# Altium footprint library LED_SMD.PcbLib: 79 footprints (part 4 of 5)
Each footprint in its own frame and in the unit in brackets; x right, y up, seen from the top. Pads: shape width x height; smd on the part's side, far side on the other; paste and mask are expansions set on the pad; w line width, h text height; cw(c..) or ccw(c..) is an arc to the next point about the centre after c.
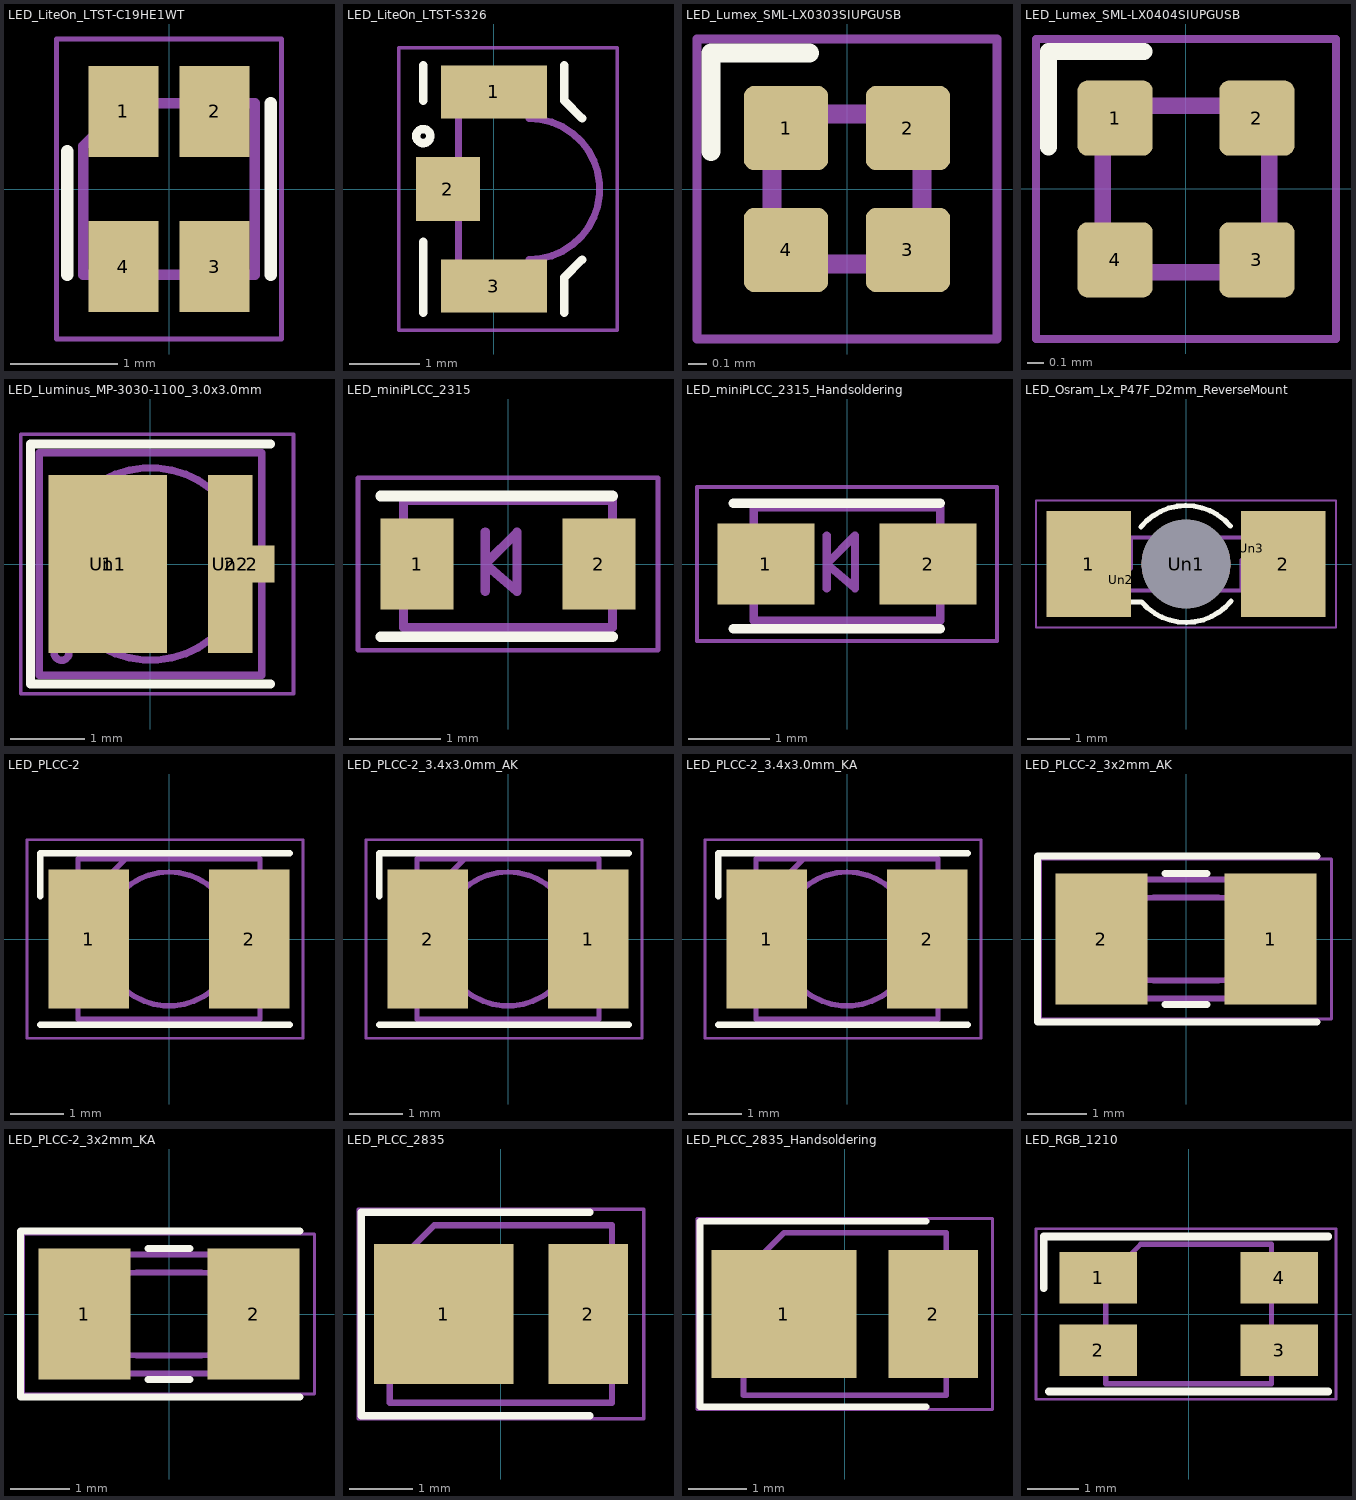
[diagram p3: the footprints below, top view; thin cyan lines are the x and y axes]

## LED_LiteOn_LTST-C19HE1WT [mm]
pads (4):
  rect 0.65x0.85 smd: 1(-0.425,0.725) 2(0.425,0.725) 3(0.425,-0.725) 4(-0.425,-0.725)
F.SilkS:
  lines w0.12: -0.95,-0.8 -0.95,0.35 ; 0.95,-0.8 0.95,0.8
F.CrtYd:
  lines w0.05: -1.05,-1.4 -1.05,1.4 1.05,1.4 1.05,-1.4 -1.05,-1.4
F.Fab:
  lines w0.1: -0.8,-0.8 -0.8,0.4 -0.4,0.8 0.8,0.8 0.8,-0.8 -0.8,-0.8
  text "'.Designator'" at -1.219,-0.257 h0.3

## LED_LiteOn_LTST-S326 [mm]
pads (3):
  rect 1.5x0.75 smd: 1(0,1.375) 3(0,-1.375)
  rect 0.9x0.9 smd: 2(-0.65,0)
F.SilkS:
  circle w0.12: c-1,0.75 r0.1
  lines w0.12: -1,-1.75 -1,-0.75 ; -1,1.25 -1,1.75 ; 1,-1.75 1,-1.25 1.25,-1 ; 1,1.75 1,1.25 1.25,1
F.CrtYd:
  lines w0.05: -1.35,-2 -1.35,2 1.75,2 1.75,-2 -1.35,-2
F.Fab:
  lines w0.1: -0.5,-1.5 -0.5,1.5 0.5,1.5 0.5,1 cw(c0.5,0) 0.5,-1 0.5,-1.5 -0.5,-1.5
  text "'.Designator'" at -3.197,-0.632 h0.8

## LED_Lumex_SML-LX0303SIUPGUSB [mm]
pads (4):
  rrect25% 0.45x0.45 smd: 1(-0.325,0.325) 2(0.325,0.325) 3(0.325,-0.325) 4(-0.325,-0.325)
F.SilkS:
  lines w0.1: -0.725,0.2 -0.725,0.725 -0.2,0.725
F.CrtYd:
  lines w0.05: -0.8,-0.8 -0.8,0.8 0.8,0.8 0.8,-0.8 -0.8,-0.8
F.Fab:
  lines w0.1: -0.4,-0.4 -0.4,0.2 -0.2,0.4 0.4,0.4 0.4,-0.4 -0.4,-0.4
  text "'.Designator'" at -2.048,0.555 h0.5

## LED_Lumex_SML-LX0404SIUPGUSB [mm]
pads (4):
  rrect25% 0.45x0.45 smd: 1(-0.425,0.425) 2(0.425,0.425) 3(0.425,-0.425) 4(-0.425,-0.425)
F.SilkS:
  lines w0.1: -0.825,0.25 -0.825,0.825 -0.25,0.825
F.CrtYd:
  lines w0.05: -0.9,-0.9 -0.9,0.9 0.9,0.9 0.9,-0.9 -0.9,-0.9
F.Fab:
  lines w0.1: -0.5,-0.5 -0.5,0.25 -0.25,0.5 0.5,0.5 0.5,-0.5 -0.5,-0.5
  text "'.Designator'" at -2.048,0.555 h0.5

## LED_Luminus_MP-3030-1100_3.0x3.0mm [mm]
pads (5):
  rect 1.6x2.4 smd: 1(-0.575,0)
  rect 0.6x2.4 smd: 2(1.075,0)
  rect 0.6x0.5 smd: 2(1.375,0)
  rect 1.3x1.9 on Top Paste: Un1(-0.575,0)
  rect 0.4x1.9 on Top Paste: Un2(1.075,0)
F.SilkS:
  lines w0.12: 1.62,-1.62 -1.62,-1.62 -1.62,1.62 1.62,1.62
F.CrtYd:
  lines w0.05: -1.75,-1.75 -1.75,1.75 1.93,1.75 1.93,-1.75 -1.75,-1.75
F.Fab:
  circle w0.1: c-1.2,-1.2 r0.1
  circle w0.1: c0,0 r1.3
  lines w0.1: -1.5,-1.5 -1.5,1.5 1.5,1.5 1.5,-1.5 -1.5,-1.5
  text "'.Designator'" at -2.428,-0.504 h0.6

## LED_miniPLCC_2315 [mm]
pads (2):
  rect 0.8x1 smd: 1(-1,0) 2(1,0)
F.SilkS:
  lines w0.12: -1.4,-0.8 1.15,-0.8 ; -1.4,0.75 1.15,0.75
F.CrtYd:
  lines w0.05: -1.65,-0.95 -1.65,0.95 1.65,0.95 1.65,-0.95 -1.65,-0.95
F.Fab:
  lines w0.1: -0.25,-0.3 -0.25,0.35 ; -1.15,-0.7 -1.15,0.7 1.15,0.7 1.15,-0.7 -1.15,-0.7 ; -0.25,0 0.1,-0.3 0.1,0.35 -0.25,0

## LED_miniPLCC_2315_Handsoldering [mm]
pads (2):
  rect 1.2x1 smd: 1(-1,0) 2(1,0)
F.SilkS:
  lines w0.12: -1.4,-0.8 1.15,-0.8 ; -1.4,0.75 1.15,0.75
F.CrtYd:
  lines w0.05: -1.85,-0.95 -1.85,0.95 1.85,0.95 1.85,-0.95 -1.85,-0.95
F.Fab:
  lines w0.1: -0.25,-0.3 -0.25,0.35 ; -1.15,-0.7 1.15,-0.7 1.15,0.7 -1.15,0.7 -1.15,-0.7 ; -0.25,0 0.1,0.35 0.1,-0.3 -0.25,0

## LED_Osram_Lx_P47F_D2mm_ReverseMount [mm]
pads (5):
  rect 2x2.5 smd: 1(-2.3,0) 2(2.3,0)
  round 2.1 hole 2.1: Un1(0,0)
  rect 0.5x0.7 on Top Paste: Un2(-1.55,-0.375) Un3(1.55,0.375)
F.SilkS:
  lines w0.12: -2,-0.9 -1.05,-0.9 ccw(c0,0) 1.069,-0.878 ; -1.069,0.878 cw(c0,0) 1.05,0.9
F.CrtYd:
  lines w0.05: -3.55,-1.5 3.55,-1.5 3.55,1.5 -3.55,1.5 -3.55,-1.5
F.Fab:
  lines w0.1: -0.715,0.625 -1.3,0.625 -1.3,-0.1 -1.5,-0.1 -1.7,-0.3 -1.7,-0.625 -0.715,-0.625 ccw(c0,0) 0.714,-0.626 ; -0.714,0.626 cw(c0,0) 0.715,0.625 1.705,0.625 1.705,0.095 1.315,0.095 1.315,-0.625 0.715,-0.625
  text "'.Designator'" at -2.438,-0.514 h0.6

## LED_PLCC-2 [mm]
pads (2):
  rect 1.5x2.6 smd: 1(-1.5,0) 2(1.5,0)
F.SilkS:
  lines w0.12: -2.4,-1.6 2.25,-1.6 ; -2.4,0.8 -2.4,1.6 2.25,1.6
F.CrtYd:
  lines w0.05: -2.65,-1.85 2.5,-1.85 2.5,1.85 -2.65,1.85 -2.65,-1.85
F.Fab:
  circle w0.1: c0,0 r1.25
  lines w0.1: -1.7,0.6 -0.8,1.5 ; -1.7,-1.5 -1.7,1.5 1.7,1.5 1.7,-1.5 -1.7,-1.5
  text "'.Designator'" at -1.659,-0.376 h0.4

## LED_PLCC-2_3.4x3.0mm_AK [mm]
pads (2):
  rect 1.5x2.6 smd: 1(1.5,0) 2(-1.5,0)
F.SilkS:
  lines w0.12: -2.4,-1.6 2.25,-1.6 ; -2.4,0.8 -2.4,1.6 2.25,1.6
F.CrtYd:
  lines w0.05: -2.65,-1.85 2.5,-1.85 2.5,1.85 -2.65,1.85 -2.65,-1.85
F.Fab:
  circle w0.1: c0,0 r1.25
  lines w0.1: -1.7,0.6 -0.8,1.5 ; -1.7,-1.5 -1.7,1.5 1.7,1.5 1.7,-1.5 -1.7,-1.5
  text "'.Designator'" at -2.048,-0.445 h0.5

## LED_PLCC-2_3.4x3.0mm_KA [mm]
pads (2):
  rect 1.5x2.6 smd: 1(-1.5,0) 2(1.5,0)
F.SilkS:
  lines w0.12: -2.4,-1.6 2.25,-1.6 ; -2.4,0.8 -2.4,1.6 2.25,1.6
F.CrtYd:
  lines w0.05: -2.65,-1.85 2.5,-1.85 2.5,1.85 -2.65,1.85 -2.65,-1.85
F.Fab:
  circle w0.1: c0,0 r1.25
  lines w0.1: -1.7,0.6 -0.8,1.5 ; -1.7,-1.5 -1.7,1.5 1.7,1.5 1.7,-1.5 -1.7,-1.5
  text "'.Designator'" at -2.048,-0.445 h0.5

## LED_PLCC-2_3x2mm_AK [mm]
pads (2):
  rect 1.55x2.2 smd: 1(1.425,0) 2(-1.425,0)
F.SilkS:
  lines w0.12: -0.35,-1.1 0.35,-1.1 ; -0.35,1.1 0.35,1.1 ; 2.2,-1.4 -2.5,-1.4 -2.5,1.4 2.2,1.4
F.CrtYd:
  lines w0.05: -2.45,-1.35 2.45,-1.35 2.45,1.35 -2.45,1.35 -2.45,-1.35
F.Fab:
  lines w0.1: -1.5,0.4 -0.9,1 ; -1.5,-1 -1.5,1 1.5,1 1.5,-1 -1.5,-1 ; -0.55,-0.7 0.55,-0.7 ccw(c0.55,0) 0.55,0.7 -0.55,0.7 ccw(c-0.55,0) -0.55,-0.7
  text "'.Designator'" at -2.048,-0.445 h0.5

## LED_PLCC-2_3x2mm_KA [mm]
pads (2):
  rect 1.55x2.2 smd: 1(-1.425,0) 2(1.425,0)
F.SilkS:
  lines w0.12: -0.35,-1.1 0.35,-1.1 ; -0.35,1.1 0.35,1.1 ; 2.2,-1.4 -2.5,-1.4 -2.5,1.4 2.2,1.4
F.CrtYd:
  lines w0.05: -2.45,-1.35 2.45,-1.35 2.45,1.35 -2.45,1.35 -2.45,-1.35
F.Fab:
  lines w0.1: -1.5,0.4 -0.9,1 ; -1.5,-1 -1.5,1 1.5,1 1.5,-1 -1.5,-1 ; -0.55,-0.7 0.55,-0.7 ccw(c0.55,0) 0.55,0.7 -0.55,0.7 ccw(c-0.55,0) -0.55,-0.7
  text "'.Designator'" at -2.048,-0.445 h0.5

## LED_PLCC_2835 [mm]
pads (2):
  rect 2.2x2.2 smd: 1(-0.9,0)
  rect 1.25x2.2 smd: 2(1.375,0)
F.SilkS:
  lines w0.12: 1.4,-1.6 -2.2,-1.6 -2.2,1.6 1.4,1.6
F.CrtYd:
  lines w0.05: -2.25,-1.65 -2.25,1.65 2.25,1.65 2.25,-1.65 -2.25,-1.65
F.Fab:
  lines w0.1: -1.75,-1.4 1.75,-1.4 1.75,1.4 -1.05,1.4 -1.75,0.7 -1.75,-1.4
  text "'.Designator'" at -3.642,-0.756 h0.9

## LED_PLCC_2835_Handsoldering [mm]
pads (2):
  rect 2.5x2.2 smd: 1(-1.05,0)
  rect 1.55x2.2 smd: 2(1.525,0)
F.SilkS:
  lines w0.12: 1.4,-1.6 -2.5,-1.6 -2.5,1.6 1.4,1.6
F.CrtYd:
  lines w0.05: -2.55,-1.65 -2.55,1.65 2.55,1.65 2.55,-1.65 -2.55,-1.65
F.Fab:
  lines w0.1: -1.75,-1.4 -1.75,0.7 -1.05,1.4 1.75,1.4 1.75,-1.4 -1.75,-1.4
  text "'.Designator'" at -3.642,-0.756 h0.9

## LED_RGB_1210 [mm]
pads (4):
  rect 1.5x1 smd: 1(-1.75,0.7) 2(-1.75,-0.7) 3(1.75,-0.7) 4(1.75,0.7)
F.SilkS:
  lines w0.15: -2.8,0.5 -2.8,1.5 2.7,1.5 ; -2.7,-1.5 2.7,-1.5
F.CrtYd:
  lines w0.05: -2.95,-1.65 -2.95,1.65 2.85,1.65 2.85,-1.65 -2.95,-1.65
F.Fab:
  lines w0.1: -1.6,-1.35 -1.6,0.675 -0.925,1.35 1.6,1.35 1.6,-1.35 -1.6,-1.35
  text "'.Designator'" at -4.047,1.46 h1
3D body "LED_RGB_1210.step": height 1.11, standoff 0, extent -1.6,-1.35 1.6,1.35